# Altium footprint library PCB - CONNECTOR - SAMTEC HTEC8-140-01-X-DV-A.PCBLIB: 1 footprints
Each footprint in its own frame and in the unit in brackets; x right, y up, seen from the top. Pads: shape width x height; smd on the part's side, far side on the other; paste and mask are expansions set on the pad; w line width, h text height; cw(c..) or ccw(c..) is an arc to the next point about the centre after c.
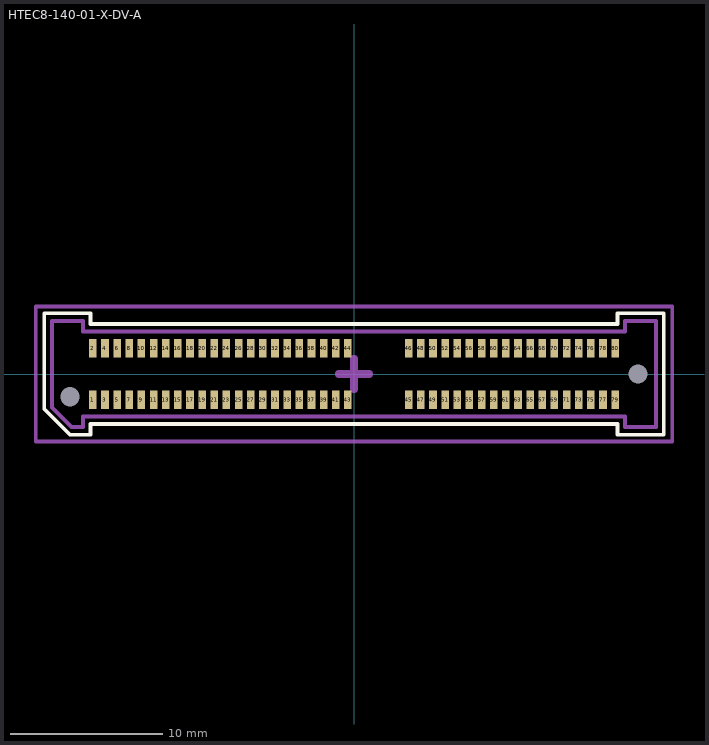
[diagram p0: the footprint, top view; thin cyan lines are the x and y axes]

## HTEC8-140-01-X-DV-A [mm]
pads (82):
  rect 0.5x1.2 smd mask+0.05: 1(-17.2,-1.7) 2(-17.2,1.7) 3(-16.4,-1.7) 4(-16.4,1.7) 5(-15.6,-1.7) 6(-15.6,1.7) 7(-14.8,-1.7) 8(-14.8,1.7) 9(-14,-1.7) 10(-14,1.7) 11(-13.2,-1.7) 12(-13.2,1.7) 13(-12.4,-1.7) 14(-12.4,1.7) 15(-11.6,-1.7) 16(-11.6,1.7) 17(-10.8,-1.7) 18(-10.8,1.7) 19(-10,-1.7) 20(-10,1.7) 21(-9.2,-1.7) 22(-9.2,1.7) 23(-8.4,-1.7) 24(-8.4,1.7) 25(-7.6,-1.7) 26(-7.6,1.7) 27(-6.8,-1.7) 28(-6.8,1.7) 29(-6,-1.7) 30(-6,1.7) 31(-5.2,-1.7) 32(-5.2,1.7) 33(-4.4,-1.7) 34(-4.4,1.7) 35(-3.6,-1.7) 36(-3.6,1.7) 37(-2.8,-1.7) 38(-2.8,1.7) 39(-2,-1.7) 40(-2,1.7) 41(-1.2,-1.7) 42(-1.2,1.7) 43(-0.4,-1.7) 44(-0.4,1.7) 45(3.6,-1.7) 46(3.6,1.7) 47(4.4,-1.7) 48(4.4,1.7) 49(5.2,-1.7) 50(5.2,1.7) 51(6,-1.7) 52(6,1.7) 53(6.8,-1.7) 54(6.8,1.7) 55(7.6,-1.7) 56(7.6,1.7) 57(8.4,-1.7) 58(8.4,1.7) 59(9.2,-1.7) 60(9.2,1.7) 61(10,-1.7) 62(10,1.7) 63(10.8,-1.7) 64(10.8,1.7) 65(11.6,-1.7) 66(11.6,1.7) 67(12.4,-1.7) 68(12.4,1.7) 69(13.2,-1.7) 70(13.2,1.7) 71(14,-1.7) 72(14,1.7) 73(14.8,-1.7) 74(14.8,1.7) 75(15.6,-1.7) 76(15.6,1.7) 77(16.4,-1.7) 78(16.4,1.7) 79(17.2,-1.7) 80(17.2,1.7)
  round 0 hole 1.27 unplated: MH1(-18.7,-1.5) MH2(18.7,0)
Top Overlay:
  lines w0.254: -20.4,-2.3 -20.4,4 -17.35,4 -17.35,3.3 17.35,3.3 17.35,4 20.4,4 20.4,-4 17.35,-4 17.35,-3.3 -17.35,-3.3 -17.35,-4 -18.7,-4 -20.4,-2.3
Top Assembly:
  lines w0.254: -19.9,-2.2 -18.6,-3.5 -17.85,-3.5 -17.85,-2.8 17.85,-2.8 17.85,-3.5 19.9,-3.5 19.9,3.5 17.85,3.5 17.85,2.8 -17.85,2.8 -17.85,3.5 -19.9,3.5 -19.9,-2.2
Top Courtyard:
  lines w0.254: -20.955,-4.445 20.955,-4.445 20.955,4.445 -20.955,4.445 -20.955,-4.445
Top Designator (Mech9):
  text ".Designator" at -4.998,-0.333 h1
Top Component Center:
  lines w0.5: -1,0 1,0 ; 0,-1 0,1
3D body "HTEC8-140-01-L-DV-A-K-TR.stp": height 7.8, standoff -1.5, extent -19.9,-3.5 19.9,3.5